# EAGLE library part MIC4421 (library LM555CN)
ON Semiconductor LM555CN, Timer, 4.5 16 V, 8-Pin PDIP Source: Datasheet <http://www.onsemi.com/pub/Collateral/LM555-D.pdf>
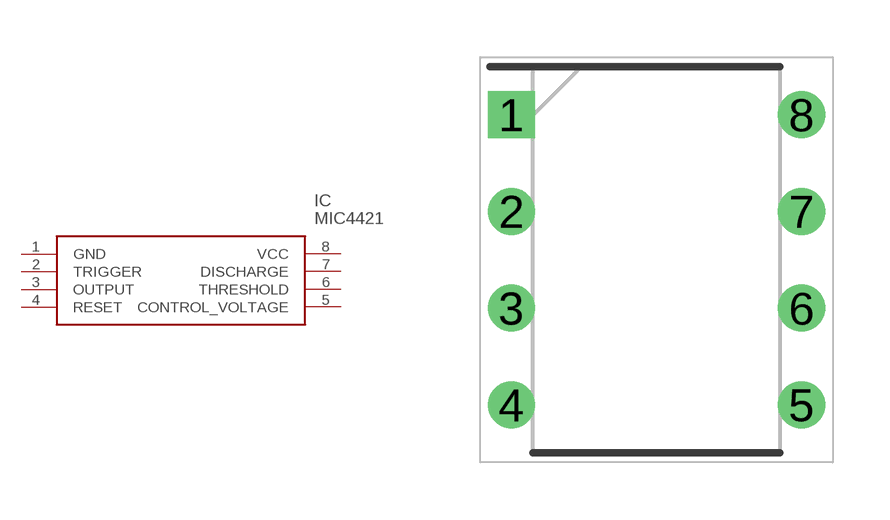
[diagram p1: symbol with the pads of DIP762W53P254L980H533Q8N; footprint DIP762W53P254L980H533Q8N]

Designator prefix IC

## MIC4421 (ARROW_PART_NUMBER: LM555CN; ARROW_PRICE-STOCK: https://www.arrow.com/en/products/lm555cn/on-semiconductor; DESCRIPTION: ON Semiconductor LM555CN, Timer, 4.5 16 V, 8-Pin PDIP; HEIGHT: 5.33mm; MANUFACTURER_NAME: ON Semiconductor; MANUFACTURER_PART_NUMBER: LM555CN; MOUSER_PART_NUMBER: 512-LM555CN; MOUSER_PRICE-STOCK: https://www.mouser.co.uk/ProductDetail/ON-Semiconductor-Fairchild/LM555CN?qs=AFLC8Sm4xaX0SxPz974UPA%3D%3D)  [DIP762W53P254L980H533Q8N]
1  GND
2  TRIGGER
3  OUTPUT
4  RESET
5  CONTROL_VOLTAGE
6  THRESHOLD
7  DISCHARGE
8  VCC

## Footprint DIP762W53P254L980H533Q8N (pad centres in mm)
8-DIP
drill 0.73 pad 1.13 square: 1 -3.81,3.81
drill 0.73 pad 1.13: 2 -3.81,1.27; 3 -3.81,-1.27; 4 -3.81,-3.81; 5 3.81,-3.81; 6 3.81,-1.27; 7 3.81,1.27; 8 3.81,3.81